# Altium footprint library 0604.PcbLib: 1 footprints
Each footprint in its own frame and in the unit in brackets; x right, y up, seen from the top. Pads: shape width x height; smd on the part's side, far side on the other; paste and mask are expansions set on the pad; w line width, h text height; cw(c..) or ccw(c..) is an arc to the next point about the centre after c.
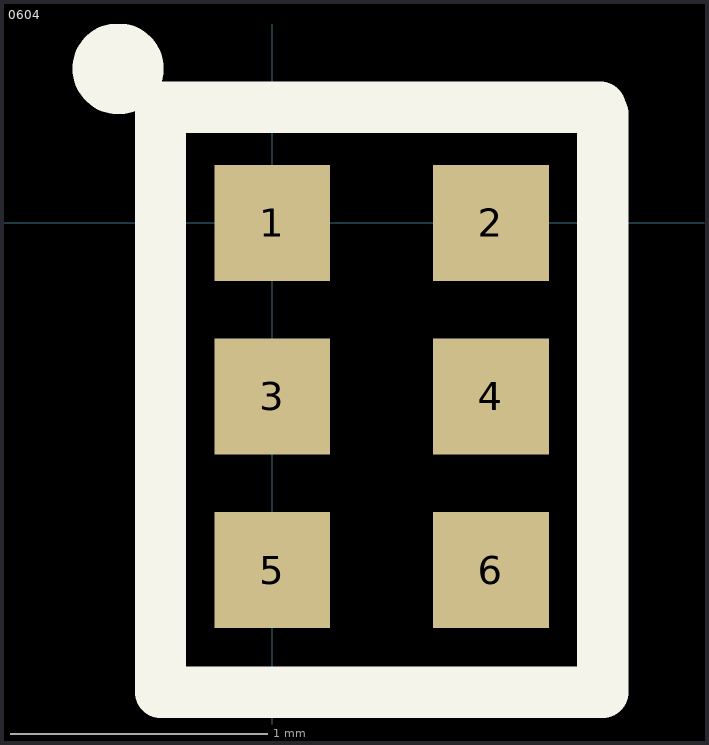
[diagram p0: the footprint, top view; thin cyan lines are the x and y axes]

## 0604 [mm]
pads (6):
  rect 0.45x0.45 smd: 1(0,0) 2(0.85,0) 3(0,-0.675) 4(0.85,-0.675) 5(0,-1.35) 6(0.85,-1.35)
Top Overlay:
  circle w0.254: c-0.6,0.6 r0.05
  lines w0.2: 1.275,0.45 -0.425,0.45 -0.435,0.44 -0.435,-1.825 1.285,-1.825 1.285,0.425